# Altium integrated library RS_Passives.IntLib: 9 symbols
Pins are listed as number, name and electrical type; pins without a type are passive.

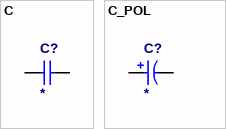
[diagram p0: symbols C to C_POL]

## C
designator C?
Monolitic Capacitor; ComponentLink1Description: datasheet; ComponentLink2Description: supplier; Value: *
footprint C18X11X19_15 (MKP 1u/250V)
pins: 1, 2
2 alternate drawings of the same symbol

## C_POL
designator C?
Polarized Capacitor; ComponentLink1Description: datasheet; ComponentLink2Description: supplier; Value: *
footprint CE30x42_10
footprint CE18x36_7.5
footprint CE13x21_5
pins: 1, 2
2 alternate drawings of the same symbol


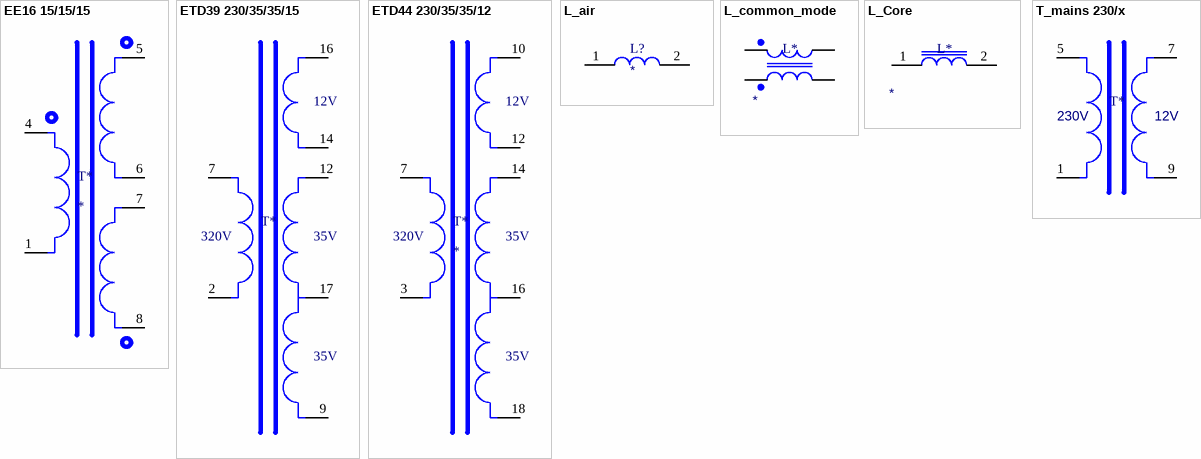
[diagram p1: symbols EE16 15/15/15 to T_mains 230/x]

## EE16 15/15/15
designator T*
Gate drive transformer
footprint EE16/8/5 horizontal (Feryster EF16-K-H-8P-T1618)
pins: 1, 4, 5, 6, 7, 8

## ETD39 230/35/35/15
designator T*
SMPS transformer for audio
footprint ETD39/20/13 horizontal
pins: 2, 7 0, 9, 12, 14, 16, 17
text: 12V; 320V; 35V

## ETD44 230/35/35/12
designator T*
SMPS transformer for audio
footprint ETD44/22/15 18pin horizontal
pins: 3 1, 7 0, 10 2, 12 3, 14, 16 5, 18
text: 12V; 320V; 35V

## L_air
designator L?
Value: *
footprint ind_1_1uH
pins: 1, 2

## L_common_mode
designator L*
Value: *
footprint DTS-16/0,68/3,0-KM3 (Common mode choke)
pins: 1, 2, 3, 4

## L_Core
designator L*
Value: *
footprint T106_core (Micrometals T106-26 core footprint)
footprint T60_core (Micrometals T60-26 core footprint)
pins: 1, 2

## T_mains 230/x
designator T*  (value not drawn)
mains voltage transformer, single secondary winding
footprint BV EI 302 2903 (PCB mains voltage transformer)
pins: 1, 5, 7, 9
text: 230V; 12V